# Altium schematic symbol library BOTAO.SchLib: 1 symbol
Pins are listed as number, name and electrical type; pins without a type are passive.

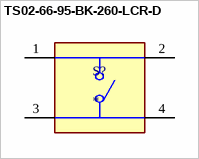
[diagram p0: symbol TS02-66-95-BK-260-LCR-D]

## TS02-66-95-BK-260-LCR-D
designator S?
MP: TS02-66-95-BK-260-LCR-D; Price: None; Availability: Unavailable; Value: *; Package: None
footprint SW_TS02-66-95-BK-260-LCR-D
pins: 1, 2, 3, 4